# EAGLE library part 15EDGRC-3.81-9P-14-00A (library Connectors)
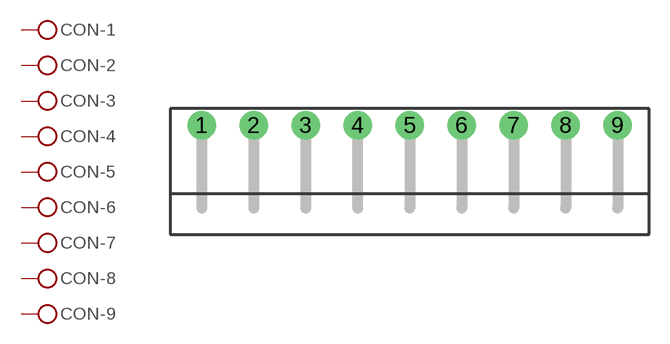
[diagram p3: symbol with the pads of 15EDGRC-3.81-9P-14-00A; footprint 15EDGRC-3.81-9P-14-00A]

Designator prefix CON; gates -1=KL -2=KL -3=KL -4=KL -5=KL -6=KL -7=KL -8=KL -9=KL

## 15EDGRC-3.81-9P-14-00A  [15EDGRC-3.81-9P-14-00A]
1  -1:KL  pas
2  -2:KL  pas
3  -3:KL  pas
4  -4:KL  pas
5  -5:KL  pas
6  -6:KL  pas
7  -7:KL  pas
8  -8:KL  pas
9  -9:KL  pas

## Footprint 15EDGRC-3.81-9P-14-00A (pad centres in mm)
drill 1.4: 1 0,0; 2 3.81,0; 3 7.62,0; 4 11.43,0; 5 15.24,0; 6 19.05,0; 7 22.86,0; 8 26.67,0; 9 30.48,0